# Altium schematic symbol library AVR.SchLib: 15 symbols
Pins are listed as number, name and electrical type; pins without a type are passive.

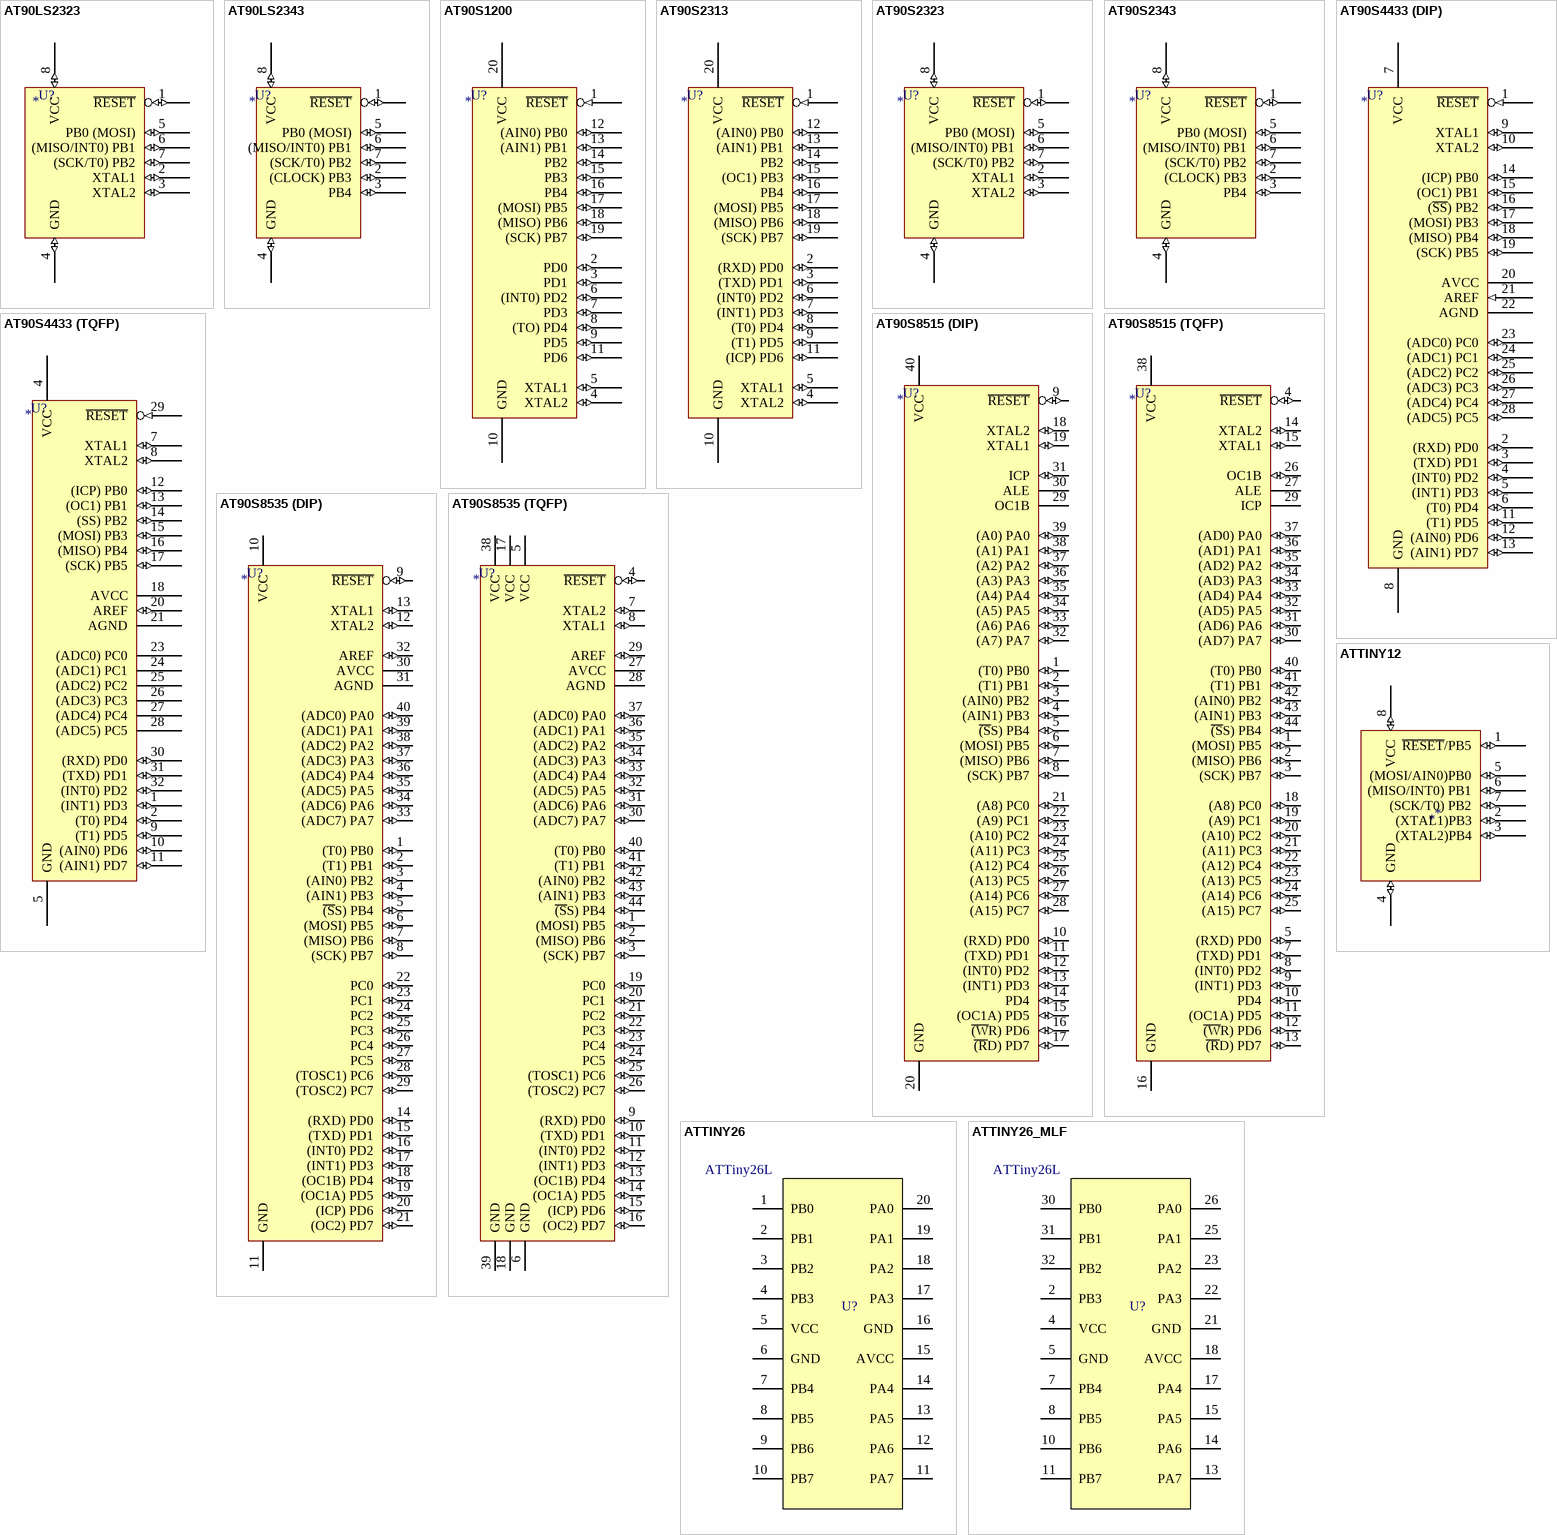
[diagram p0: symbols AT90LS2323 to ATTINY26_MLF]

## AT90LS2323
designator U?
AT90LS2323 Microcontroller (2.7 - 6.0V Supply)
footprint DIP-8
footprint SO8
pins: 1 ~{RESET} (io), 2 XTAL1 (io), 3 XTAL2 (io), 4 GND (io), 5 PB0 (MOSI) (io), 6 (MISO/INT0) PB1 (io), 7 (SCK/T0) PB2 (io), 8 VCC (io)

## AT90LS2343
designator U?
AT90S2343 Microcontroller (2.7 - 6.0V Supply)
footprint DIP-8
footprint SO8
pins: 1 ~{RESET} (io), 2 (CLOCK) PB3 (io), 3 PB4 (io), 4 GND (io), 5 PB0 (MOSI) (io), 6 (MISO/INT0) PB1 (io), 7 (SCK/T0) PB2 (io), 8 VCC (io)

## AT90S1200
designator U?
AT90S1200 Microcontroller
footprint SO20W
footprint SOP20
footprint DIP20
pins: 1 ~{RESET} (in), 2 PD0 (io), 3 PD1 (io), 4 XTAL2 (io), 5 XTAL1 (io), 6 (INT0) PD2 (io), 7 PD3 (io), 8 (TO) PD4 (io), 9 PD5 (io), 10 GND (power), 11 PD6 (io), 12 (AIN0) PB0 (io), 13 (AIN1) PB1 (io), 14 PB2 (io), 15 PB3 (io), 16 PB4 (io), 17 (MOSI) PB5 (io), 18 (MISO) PB6 (io), 19 (SCK) PB7 (io), 20 VCC (power)

## AT90S2313
designator U?
AT90S2313 Microcontroller
footprint SO20W
footprint DIP20
pins: 1 ~{RESET} (in), 2 (RXD) PD0 (io), 3 (TXD) PD1 (io), 4 XTAL2 (io), 5 XTAL1 (io), 6 (INT0) PD2 (io), 7 (INT1) PD3 (io), 8 (T0) PD4 (io), 9 (T1) PD5 (io), 10 GND (power), 11 (ICP) PD6 (io), 12 (AIN0) PB0 (io), 13 (AIN1) PB1 (io), 14 PB2 (io), 15 (OC1) PB3 (io), 16 PB4 (io), 17 (MOSI) PB5 (io), 18 (MISO) PB6 (io), 19 (SCK) PB7 (io), 20 VCC (power)

## AT90S2323
designator U?
AT90S2323 Microcontroller (4.0 - 6.0V Supply)
footprint DIP8
footprint SO8
pins: 1 ~{RESET} (io), 2 XTAL1 (io), 3 XTAL2 (io), 4 GND (io), 5 PB0 (MOSI) (io), 6 (MISO/INT0) PB1 (io), 7 (SCK/T0) PB2 (io), 8 VCC (io)

## AT90S2343
designator U?
AT90S2343 Microcontroller (4.0 - 6.0V Supply)
footprint DIP8
footprint SO8
pins: 1 ~{RESET} (io), 2 (CLOCK) PB3 (io), 3 PB4 (io), 4 GND (io), 5 PB0 (MOSI) (io), 6 (MISO/INT0) PB1 (io), 7 (SCK/T0) PB2 (io), 8 VCC (io)

## AT90S4433 (DIP)
designator U?
AT90S4433 (DIP)
footprint DIP28
pins: 1 ~{RESET} (in), 2 (RXD) PD0 (io), 3 (TXD) PD1 (io), 4 (INT0) PD2 (io), 5 (INT1) PD3 (io), 6 (T0) PD4 (io), 7 VCC (power), 8 GND (power), 9 XTAL1 (io), 10 XTAL2 (io), 11 (T1) PD5 (io), 12 (AIN0) PD6 (io), 13 (AIN1) PD7 (io), 14 (ICP) PB0 (io), 15 (OC1) PB1 (io), 16 (~{SS}) PB2 (io), 17 (MOSI) PB3 (io), 18 (MISO) PB4 (io), 19 (SCK) PB5 (io), 20 AVCC (power), 21 AREF (in), 22 AGND (power), 23 (ADC0) PC0 (io), 24 (ADC1) PC1 (io), 25 (ADC2) PC2 (io), 26 (ADC3) PC3 (io), 27 (ADC4) PC4 (io), 28 (ADC5) PC5 (io)

## AT90S4433 (TQFP)
designator U?
AT90S4433 Microcontroller (Thin Quad Flat Pack)
footprint QFP32
pins: 1 (INT1) PD3 (io), 2 (T0) PD4 (io), 3 NC (io) hidden to NC, 4 VCC (power), 5 GND (power), 6 NC hidden to NC, 7 XTAL1 (io), 8 XTAL2 (io), 9 (T1) PD5 (io), 10 (AIN0) PD6 (io), 11 (AIN1) PD7 (io), 12 (ICP) PB0 (io), 13 (OC1) PB1 (io), 14 (SS) PB2 (io), 15 (MOSI) PB3 (io), 16 (MISO) PB4 (io), 17 (SCK) PB5 (io), 18 AVCC (power), 19 NC hidden to NC, 20 AREF (io), 21 AGND (power), 22 NC hidden to NC, 23 (ADC0) PC0, 24 (ADC1) PC1, 25 (ADC2) PC2, 26 (ADC3) PC3, 27 (ADC4) PC4, 28 (ADC5) PC5, 29 ~{RESET} (in), 30 (RXD) PD0 (io), 31 (TXD) PD1 (io), 32 (INT0) PD2 (io)

## AT90S8515 (DIP)
designator U?
AT90S8515 Microcontroller, Dual In-line Package
footprint DIP40
pins: 1 (T0) PB0 (io), 2 (T1) PB1 (io), 3 (AIN0) PB2 (io), 4 (AIN1) PB3 (io), 5 ~{(S}S) PB4 (io), 6 (MOSI) PB5 (io), 7 (MISO) PB6 (io), 8 (SCK) PB7 (io), 9 ~{RESET} (io), 10 (RXD) PD0 (io), 11 (TXD) PD1 (io), 12 (INT0) PD2 (io), 13 (INT1) PD3 (io), 14 PD4 (io), 15 (OC1A) PD5 (io), 16 ~{(W}R) PD6 (io), 17 ~{(R}D) PD7 (io), 18 XTAL2 (io), 19 XTAL1 (io), 20 GND (power), 21 (A8) PC0 (io), 22 (A9) PC1 (io), 23 (A10) PC2 (io), 24 (A11) PC3 (io), 25 (A12) PC4 (io), 26 (A13) PC5 (io), 27 (A14) PC6 (io), 28 (A15) PC7 (io), 29 OC1B (power), 30 ALE (power), 31 ICP (io), 32 (A7) PA7 (io), 33 (A6) PA6 (io), 34 (A5) PA5 (io), 35 (A4) PA4 (io), 36 (A3) PA3 (io), 37 (A2) PA2 (io), 38 (A1) PA1 (io), 39 (A0) PA0 (io), 40 VCC (power)

## AT90S8515 (TQFP)
designator U?
AT90S8515 Microcontroller, Thin Quad Flat Pack
footprint QFP10X10-44(T)
pins: 1 (MOSI) PB5 (io), 2 (MISO) PB6 (io), 3 (SCK) PB7 (io), 4 ~{RESET} (io), 5 (RXD) PD0 (io), 6 NC hidden to NC, 7 (TXD) PD1 (io), 8 (INT0) PD2 (io), 9 (INT1) PD3 (io), 10 PD4 (io), 11 (OC1A) PD5 (io), 12 ~{(W}R) PD6 (io), 13 ~{(R}D) PD7 (io), 14 XTAL2 (io), 15 XTAL1 (io), 16 GND (power), 17 NC hidden to NC, 18 (A8) PC0 (io), 19 (A9) PC1 (io), 20 (A10) PC2 (io), 21 (A11) PC3 (io), 22 (A12) PC4 (io), 23 (A13) PC5 (io), 24 (A14) PC6 (io), 25 (A15) PC7 (io), 26 OC1B (io), 27 ALE (power), 28 NC hidden to NC, 29 ICP (power), 30 (AD7) PA7 (io), 31 (AD6) PA6 (io), 32 (AD5) PA5 (io), 33 (AD4) PA4 (io), 34 (AD3) PA3 (io), 35 (AD2) PA2 (io), 36 (AD1) PA1 (io), 37 (AD0) PA0 (io), 38 VCC (power), 39 NC hidden to NC, 40 (T0) PB0 (io), 41 (T1) PB1 (io), 42 (AIN0) PB2 (io), 43 (AIN1) PB3 (io), 44 ~{(S}S) PB4 (io)

## AT90S8535 (DIP)
designator U?
AT90S8535 Microcontroller, Dual In-line Package
footprint DIP40
pins: 1 (T0) PB0 (io), 2 (T1) PB1 (io), 3 (AIN0) PB2 (io), 4 (AIN1) PB3 (io), 5 ~{(S}S) PB4 (io), 6 (MOSI) PB5 (io), 7 (MISO) PB6 (io), 8 (SCK) PB7 (io), 9 ~{RESET} (io), 10 VCC (power), 11 GND (power), 12 XTAL2 (io), 13 XTAL1 (io), 14 (RXD) PD0 (io), 15 (TXD) PD1 (io), 16 (INT0) PD2 (io), 17 (INT1) PD3 (io), 18 (OC1B) PD4 (io), 19 (OC1A) PD5 (io), 20 (ICP) PD6 (io), 21 (OC2) PD7 (io), 22 PC0 (io), 23 PC1 (io), 24 PC2 (io), 25 PC3 (io), 26 PC4 (io), 27 PC5 (io), 28 (TOSC1) PC6 (io), 29 (TOSC2) PC7 (io), 30 AVCC (power), 31 AGND (power), 32 AREF (io), 33 (ADC7) PA7 (io), 34 (ADC6) PA6 (io), 35 (ADC5) PA5 (io), 36 (ADC4) PA4 (io), 37 (ADC3) PA3 (io), 38 (ADC2) PA2 (io), 39 (ADC1) PA1 (io), 40 (ADC0) PA0 (io)

## AT90S8535 (TQFP)
designator U?
AT90S8535 Microcontroller, Thin Quad Flat Pack
footprint QFP10X10-44(T)
pins: 1 (MOSI) PB5 (io), 2 (MISO) PB6 (io), 3 (SCK) PB7 (io), 4 ~{RESET} (io), 5 VCC (power), 6 GND (power), 7 XTAL2 (io), 8 XTAL1 (io), 9 (RXD) PD0 (io), 10 (TXD) PD1 (io), 11 (INT0) PD2 (io), 12 (INT1) PD3 (io), 13 (OC1B) PD4 (io), 14 (OC1A) PD5 (io), 15 (ICP) PD6 (io), 16 (OC2) PD7 (io), 17 VCC (power), 18 GND (power), 19 PC0 (io), 20 PC1 (io), 21 PC2 (io), 22 PC3 (io), 23 PC4 (io), 24 PC5 (io), 25 (TOSC1) PC6 (io), 26 (TOSC2) PC7 (io), 27 AVCC (power), 28 AGND (power), 29 AREF (io), 30 (ADC7) PA7 (io), 31 (ADC6) PA6 (io), 32 (ADC5) PA5 (io), 33 (ADC4) PA4 (io), 34 (ADC3) PA3 (io), 35 (ADC2) PA2 (io), 36 (ADC1) PA1 (io), 37 (ADC0) PA0 (io), 38 VCC (power), 39 GND (power), 40 (T0) PB0 (io), 41 (T1) PB1 (io), 42 (AIN0) PB2 (io), 43 (AIN1) PB3 (io), 44 ~{(S}S) PB4 (io)

## ATTINY12
designator *
pins: 1 ~{RESET}/PB5 (io), 2 (XTAL1)PB3 (io), 3 (XTAL2)PB4 (io), 4 GND (io), 5 (MOSI/AIN0)PB0 (io), 6 (MISO/INT0) PB1 (io), 7 (SCK/T0) PB2 (io), 8 VCC (io)

## ATTINY26
designator U?, comment ATTiny26L
Atmel AVR ATTiny26(L)
footprint SO20/0.3 (SO20 0.3" Width)
footprint DIP20
pins: 1 PB0, 2 PB1, 3 PB2, 4 PB3, 5 VCC, 6 GND, 7 PB4, 8 PB5, 9 PB6, 10 PB7, 11 PA7, 12 PA6, 13 PA5, 14 PA4, 15 AVCC, 16 GND, 17 PA3, 18 PA2, 19 PA1, 20 PA0

## ATTINY26_MLF
designator U?, comment ATTiny26L
Atmel AVR ATTiny26(L)
footprint 32M1-A (MLF32 Package)
pins: 0 hidden to GND, 2 PB3, 4 VCC, 5 GND, 7 PB4, 8 PB5, 10 PB6, 11 PB7, 13 PA7, 14 PA6, 15 PA5, 17 PA4, 18 AVCC, 21 GND, 22 PA3, 23 PA2, 25 PA1, 26 PA0, 30 PB0, 31 PB1, 32 PB2